# EAGLE library part CBT3244AD (library custom)
The CBT3244A provides eight bits of high-speed TTL-compatible bus switching in a standard '244 device pinout. The low ON-state resistance of the switch allows connections to be made with minimal propagation delay. The CBT3244A device is organized as two 4-bit low-impedance switches with separate output-enable (OE) inputs. When OE is LOW, the switch is on and data can flow from port A to port B, or vice versa. When OE is HIGH, the switch is open and high-impedance state exists between the two ports. The CBT3244A is characterized for operation from −40 °C to +85 °C.
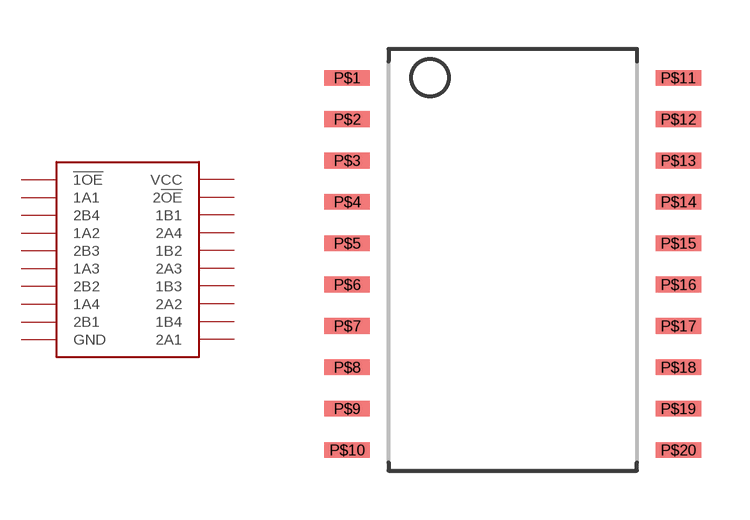
[diagram p3: symbol with the pads of S020-75MM; footprint S020-75MM]

Designator prefix -

## CBT3244AD  [S020-75MM]
P$1  !1OE
P$2  1A1  in
P$3  2B4  out
P$4  1A2  in
P$5  2B3  out
P$6  1A3  in
P$7  2B2  out
P$8  1A4  in
P$9  2B1  out
P$10  GND  pwr
P$11  2A1  in
P$12  1B4  out
P$13  2A2  in
P$14  1B3  out
P$15  2A3  in
P$16  1B2  out
P$17  2A4  in
P$18  1B1  out
P$19  2!OE  in
P$20  VCC  pwr

## Footprint S020-75MM (pad centres in mm)
smd 1.397 x 0.483: P$1 -5.08,0; P$2 -5.08,-1.27; P$3 -5.08,-2.54; P$4 -5.08,-3.81; P$5 -5.08,-5.08; P$6 -5.08,-6.35; P$7 -5.08,-7.62; P$8 -5.08,-8.89; P$9 -5.08,-10.16; P$10 -5.08,-11.43; P$11 5.08,0; P$12 5.08,-1.27; P$13 5.08,-2.54; P$14 5.08,-3.81; P$15 5.08,-5.08; P$16 5.08,-6.35; P$17 5.08,-7.62; P$18 5.08,-8.89; P$19 5.08,-10.16; P$20 5.08,-11.43